# Altium footprint library PCB - LEADLESS - DFN - MAXIM TDFN-12 3X3MM TD1233+1.PCBLIB: 1 footprints
Each footprint in its own frame and in the unit in brackets; x right, y up, seen from the top. Pads: shape width x height; smd on the part's side, far side on the other; paste and mask are expansions set on the pad; w line width, h text height; cw(c..) or ccw(c..) is an arc to the next point about the centre after c.
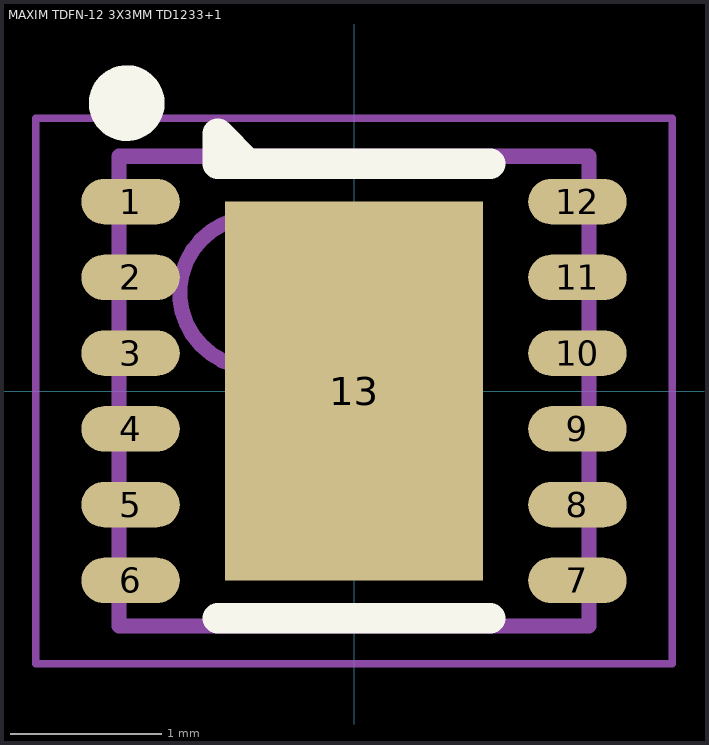
[diagram p0: the footprint, top view; thin cyan lines are the x and y axes]

## MAXIM TDFN-12 3X3MM TD1233+1 [mm] "DFN, 12-Leads, Body 3.00x3.00mm, Pitch 0.50mm, Thermal Pad 1.70x2.50mm"
height 0.8
pads (13):
  oval 0.65x0.3 smd: 1(-1.475,1.25) 2(-1.475,0.75) 3(-1.475,0.25) 4(-1.475,-0.25) 5(-1.475,-0.75) 6(-1.475,-1.25) 7(1.475,-1.25) 8(1.475,-0.75) 9(1.475,-0.25) 10(1.475,0.25) 11(1.475,0.75) 12(1.475,1.25)
  rect 1.7x2.5 smd: 13(0,0)
Top Overlay:
  circle w0.25: c-1.5,1.9 r0.125
  lines w0.2: -0.9,-1.5 0.9,-1.5 ; -0.7,1.5 -0.9,1.7 -0.9,1.5 0.9,1.5
Top Assembly:
  circle w0.1: c-0.65,0.65 r0.5
  lines w0.1: -1.55,-1.55 -1.55,1.55 1.55,1.55 1.55,-1.55 -1.55,-1.55
Top Courtyard:
  lines w0.05: -2.1,-1.8 -2.1,1.8 2.1,1.8 2.1,-1.8 -2.1,-1.8
  lines w0.1: -0.5,0 0.5,0 ; 0,-0.5 0,0.5
3D body "MAXIM DFN-12 TD1233+1.step": height 0.8, standoff 0, extent -1.56,-1.55 1.56,1.55